# Altium schematic symbol library pcb_connect.SchLib: 11 symbols
Pins are listed as number, name and electrical type; pins without a type are passive.

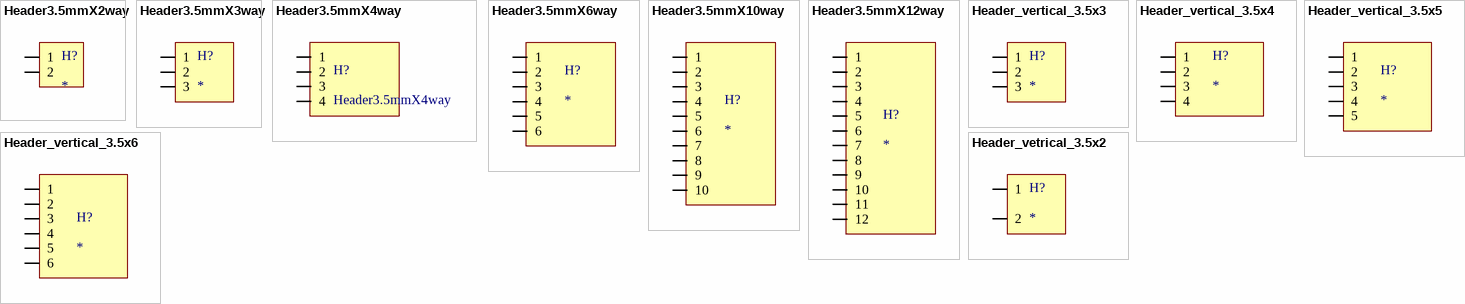
[diagram p0: symbols Header3.5mmX2way to Header_vetrical_3.5x2]

## Header3.5mmX2way
designator H?
screw_connector
footprint Header3.5mmX2way
pins: 1, 2

## Header3.5mmX3way
designator H?
screw_connector
footprint Header3.5mmX3way
pins: 1, 2, 3

## Header3.5mmX4way
designator H?
screw_connector
footprint Header3.5mmX4way
pins: 1, 2, 3, 4

## Header3.5mmX6way
designator H?
screw_connector
footprint Header3.5mmX6way
pins: 1, 2, 3, 4, 5, 6

## Header3.5mmX10way
designator H?
screw_connector
footprint Header3.5mmX10way
pins: 1, 2, 3, 4, 5, 6, 7, 8, 9, 10

## Header3.5mmX12way
designator H?
screw_connector
footprint Header3.5mmX12way
pins: 1, 2, 3, 4, 5, 6, 7, 8, 9, 10, 11, 12

## Header_vertical_3.5x3
designator H?
screw_connector
footprint Header_vertical_3.5X3
pins: 1, 2, 3

## Header_vertical_3.5x4
designator H?
screw_connector
footprint HEADER_VERTICAL_3.5X4
pins: 1, 2, 3, 4

## Header_vertical_3.5x5
designator H?
screw_connector
footprint HEADER_VERTICAL_3.5X5
pins: 1, 2, 3, 4, 5

## Header_vertical_3.5x6
designator H?
screw_connector
footprint HEADER_VERTICAL_3.5X6
pins: 1, 2, 3, 4, 5, 6

## Header_vetrical_3.5x2
designator H?
screw_connector
footprint header_vertical_3.5x2
pins: 1, 2